# Altium schematic symbol library conn5x2.SchLib: 1 symbol
Pins are listed as number, name and electrical type; pins without a type are passive.

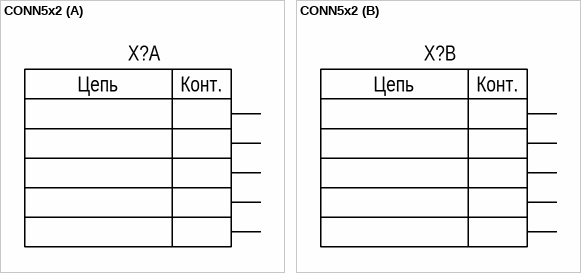
[diagram p0: symbol CONN5x2]

## CONN5x2
designator X?
part A pins: 1, 2, 3, 4, 5
part B pins: 6, 7, 8, 9, 10
part A text: Цепь; Конт.
part B text: Цепь; Конт.